# Altium schematic symbol library BTBeePro.Schlib: 1 symbol
Pins are listed as number, name and electrical type; pins without a type are passive.

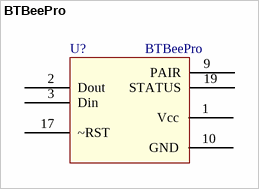
[diagram p0: symbol BTBeePro]

## BTBeePro
designator U?
Назначение: BT/RS-232 преобразователь; Наименование: BTBeePro
footprint BTBeePro
pins: 1 Vcc (oc), 2 Dout (oc), 3 Din (oc), 9 PAIR (oc), 10 GND (oc), 17 ~RST (oc), 19 STATUS (oc)